# Altium footprint library Mounting_Wuerth.PcbLib: 191 footprints (part 1 of 12)
Each footprint in its own frame and in the unit in brackets; x right, y up, seen from the top. Pads: shape width x height; smd on the part's side, far side on the other; paste and mask are expansions set on the pad; w line width, h text height; cw(c..) or ccw(c..) is an arc to the next point about the centre after c.
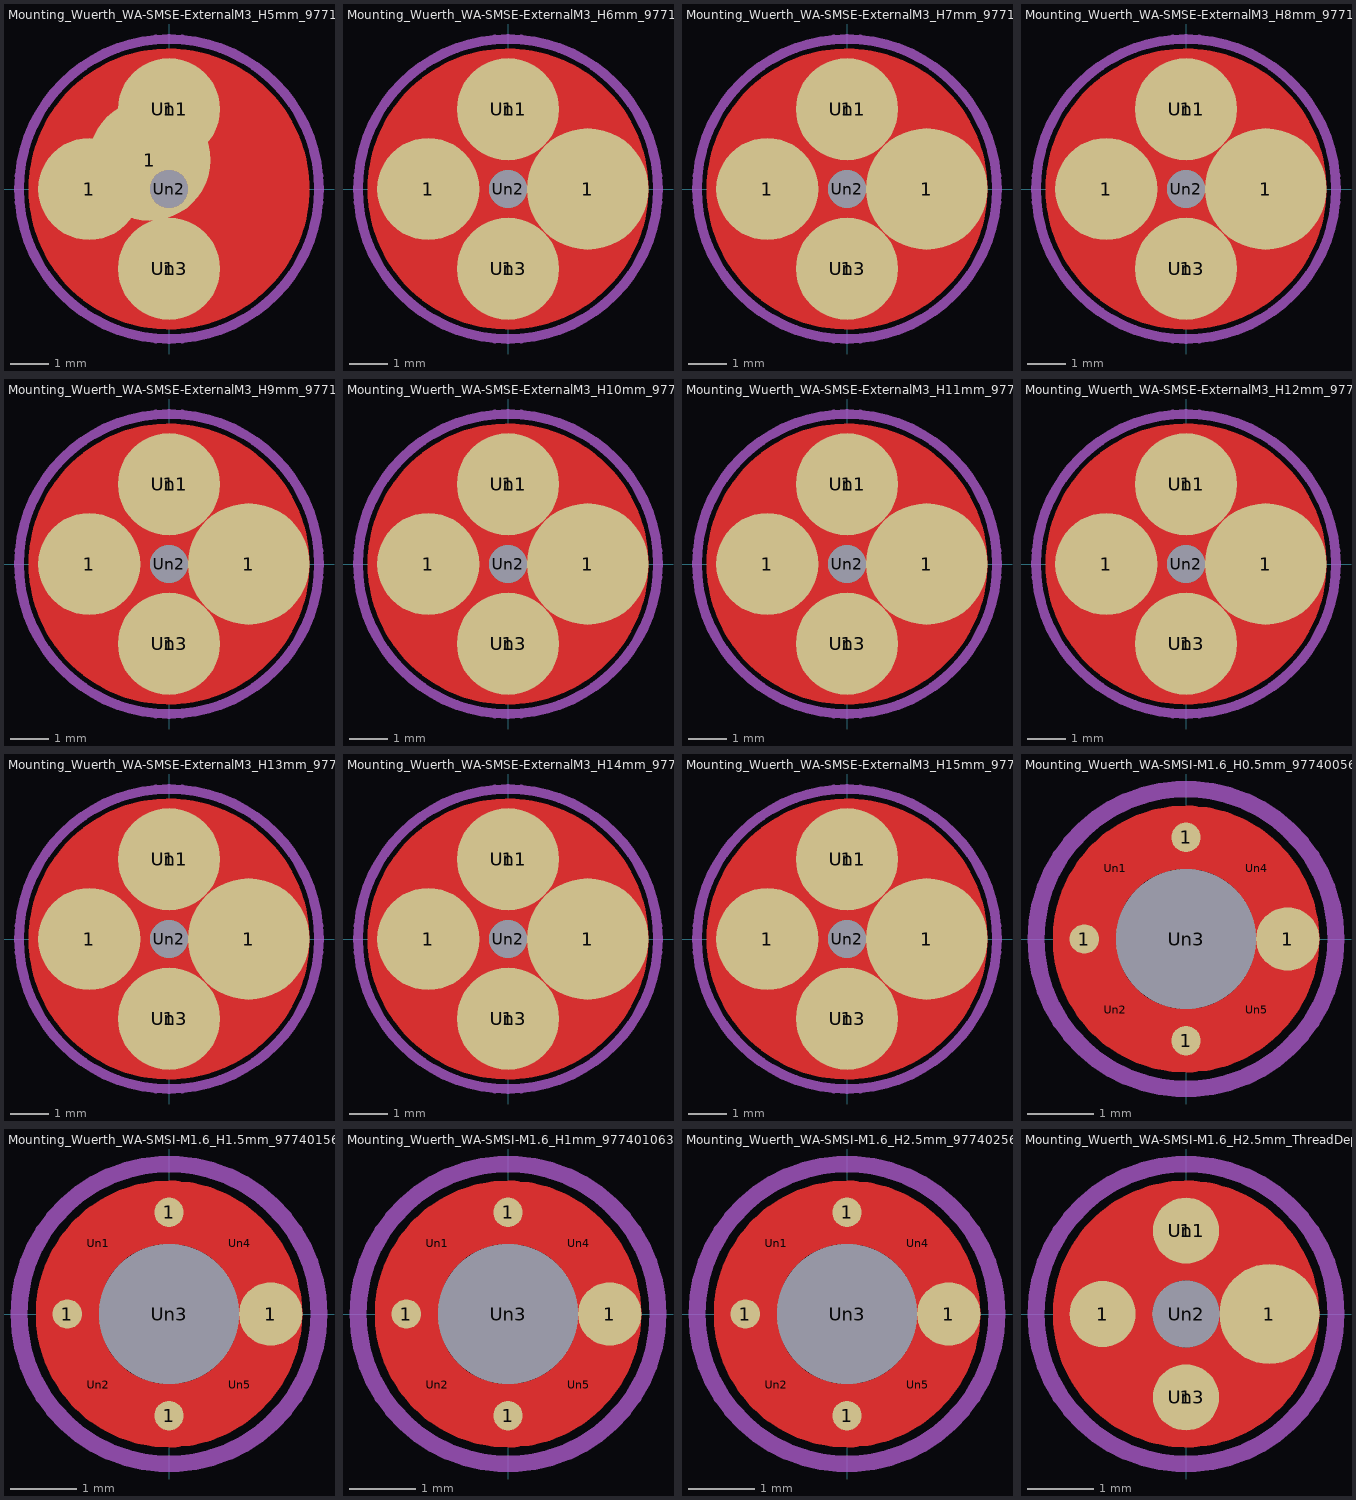
[diagram p0: the footprints below, top view; thin cyan lines are the x and y axes]

## Mounting_Wuerth_WA-SMSE-ExternalM3_H5mm_9771050360 [mm]
pads (7):
  round 2.692 smd: 1(-2.1,0) 1(0,-2.1) 1(0,2.1)
  round 3.2 smd: 1(-0.508,0.762)
  round 1.5 on Top Paste: Un1(0,2.1) Un3(0,-2.1)
  round 1 hole 1: Un2(0,0)
F.Cu:
  circle w3.2: c0,0 r2.1
F.Paste:
  lines w0.2: -3.5,0 -0.7,0 ; -3.443,0.63 -0.305,0.63 ; 0.305,-0.63 3.443,-0.63 ; 0.7,0 3.5,0
F.Mask:
  circle w3.2: c0,0 r2.1
Top Component Center:
  lines w0.127: -0.127,0 0.127,0 ; 0,-0.127 0,0.127
Top Assembly:
  circle w0.254: c0,0 r3
  text "'.Designator'" at -4.047,-0.84 h1
Top Courtyard:
  circle w0.254: c0,0 r3.95
Top Designator:
  text ".Designator" at -7.677,-0.508 h1.52
3D body "Mounting_Wuerth_WA-SMSE-ExternalM3_H5mm_9771050360.step": height 11, standoff -0.5, extent -3,-3 3,3

## Mounting_Wuerth_WA-SMSE-ExternalM3_H6mm_9771060360 [mm]
pads (7):
  round 2.692 smd: 1(-2.1,0) 1(0,-2.1) 1(0,2.1)
  round 3.2 smd: 1(2.1,0)
  round 1.5 on Top Paste: Un1(0,2.1) Un3(0,-2.1)
  round 1 hole 1: Un2(0,0)
F.Cu:
  circle w3.2: c0,0 r2.1
F.Paste:
  lines w0.2: -3.5,0 -0.7,0 ; -3.443,0.63 -0.305,0.63 ; 0.305,-0.63 3.443,-0.63 ; 0.7,0 3.5,0
F.Mask:
  circle w3.2: c0,0 r2.1
Top Assembly:
  circle w0.254: c0,0 r3
  text "'.Designator'" at -4.047,-0.84 h1
Top Courtyard:
  circle w0.254: c0,0 r3.95
Top Designator:
  text ".Designator" at -7.677,-0.508 h1.52
3D body "Mounting_Wuerth_WA-SMSE-ExternalM3_H6mm_9771060360.step": height 12, standoff -0.5, extent -3,-3 3,3

## Mounting_Wuerth_WA-SMSE-ExternalM3_H7mm_9771070360 [mm]
pads (7):
  round 2.692 smd: 1(-2.1,0) 1(0,-2.1) 1(0,2.1)
  round 3.2 smd: 1(2.1,0)
  round 1.5 on Top Paste: Un1(0,2.1) Un3(0,-2.1)
  round 1 hole 1: Un2(0,0)
F.Cu:
  circle w3.2: c0,0 r2.1
F.Paste:
  lines w0.2: -3.5,0 -0.7,0 ; -3.443,0.63 -0.305,0.63 ; 0.305,-0.63 3.443,-0.63 ; 0.7,0 3.5,0
F.Mask:
  circle w3.2: c0,0 r2.1
Top Assembly:
  circle w0.254: c0,0 r3
  text "'.Designator'" at -4.047,-0.84 h1
Top Courtyard:
  circle w0.254: c0,0 r3.95
Top Designator:
  text ".Designator" at -7.677,-0.508 h1.52
3D body "Mounting_Wuerth_WA-SMSE-ExternalM3_H7mm_9771070360.step": height 13, standoff -0.5, extent -3,-3 3,3

## Mounting_Wuerth_WA-SMSE-ExternalM3_H8mm_9771080360 [mm]
pads (7):
  round 2.692 smd: 1(-2.1,0) 1(0,-2.1) 1(0,2.1)
  round 3.2 smd: 1(2.1,0)
  round 1.5 on Top Paste: Un1(0,2.1) Un3(0,-2.1)
  round 1 hole 1: Un2(0,0)
F.Cu:
  circle w3.2: c0,0 r2.1
F.Paste:
  lines w0.2: -3.5,0 -0.7,0 ; -3.443,0.63 -0.305,0.63 ; 0.305,-0.63 3.443,-0.63 ; 0.7,0 3.5,0
F.Mask:
  circle w3.2: c0,0 r2.1
Top Assembly:
  circle w0.254: c0,0 r3
  text "'.Designator'" at -4.047,-0.84 h1
Top Courtyard:
  circle w0.254: c0,0 r3.95
Top Designator:
  text ".Designator" at -7.677,-0.508 h1.52
3D body "Mounting_Wuerth_WA-SMSE-ExternalM3_H8mm_9771080360.step": height 14, standoff -0.5, extent -3,-3 3,3

## Mounting_Wuerth_WA-SMSE-ExternalM3_H9mm_9771090360 [mm]
pads (7):
  round 2.692 smd: 1(-2.1,0) 1(0,-2.1) 1(0,2.1)
  round 3.2 smd: 1(2.1,0)
  round 1.5 on Top Paste: Un1(0,2.1) Un3(0,-2.1)
  round 1 hole 1: Un2(0,0)
F.Cu:
  circle w3.2: c0,0 r2.1
F.Paste:
  lines w0.2: -3.5,0 -0.7,0 ; -3.443,0.63 -0.305,0.63 ; 0.305,-0.63 3.443,-0.63 ; 0.7,0 3.5,0
F.Mask:
  circle w3.2: c0,0 r2.1
Top Assembly:
  circle w0.254: c0,0 r3
  text "'.Designator'" at -4.047,-0.84 h1
Top Courtyard:
  circle w0.254: c0,0 r3.95
Top Designator:
  text ".Designator" at -7.677,-0.508 h1.52
3D body "Mounting_Wuerth_WA-SMSE-ExternalM3_H9mm_9771090360.step": height 15, standoff -0.5, extent -3,-3 3,3

## Mounting_Wuerth_WA-SMSE-ExternalM3_H10mm_9771100360 [mm]
pads (7):
  round 2.692 smd: 1(-2.1,0) 1(0,-2.1) 1(0,2.1)
  round 3.2 smd: 1(2.1,0)
  round 1.5 on Top Paste: Un1(0,2.1) Un3(0,-2.1)
  round 1 hole 1: Un2(0,0)
F.Cu:
  circle w3.2: c0,0 r2.1
F.Paste:
  lines w0.2: -3.5,0 -0.7,0 ; -3.443,0.63 -0.305,0.63 ; 0.305,-0.63 3.443,-0.63 ; 0.7,0 3.5,0
F.Mask:
  circle w3.2: c0,0 r2.1
Top Assembly:
  circle w0.254: c0,0 r3
  text "'.Designator'" at -4.047,-0.84 h1
Top Courtyard:
  circle w0.254: c0,0 r3.95
Top Designator:
  text ".Designator" at -7.677,-0.508 h1.52
3D body "Mounting_Wuerth_WA-SMSE-ExternalM3_H10mm_9771100360.step": height 16, standoff -0.5, extent -3,-3 3,3

## Mounting_Wuerth_WA-SMSE-ExternalM3_H11mm_9771110360 [mm]
pads (7):
  round 2.692 smd: 1(-2.1,0) 1(0,-2.1) 1(0,2.1)
  round 3.2 smd: 1(2.1,0)
  round 1.5 on Top Paste: Un1(0,2.1) Un3(0,-2.1)
  round 1 hole 1: Un2(0,0)
F.Cu:
  circle w3.2: c0,0 r2.1
F.Paste:
  lines w0.2: -3.5,0 -0.7,0 ; -3.443,0.63 -0.305,0.63 ; 0.305,-0.63 3.443,-0.63 ; 0.7,0 3.5,0
F.Mask:
  circle w3.2: c0,0 r2.1
Top Assembly:
  circle w0.254: c0,0 r3
  text "'.Designator'" at -4.047,-0.84 h1
Top Courtyard:
  circle w0.254: c0,0 r3.95
Top Designator:
  text ".Designator" at -7.677,-0.508 h1.52
3D body "Mounting_Wuerth_WA-SMSE-ExternalM3_H11mm_9771110360.step": height 17, standoff -0.5, extent -3,-3 3,3

## Mounting_Wuerth_WA-SMSE-ExternalM3_H12mm_9771120360 [mm]
pads (7):
  round 2.692 smd: 1(-2.1,0) 1(0,-2.1) 1(0,2.1)
  round 3.2 smd: 1(2.1,0)
  round 1.5 on Top Paste: Un1(0,2.1) Un3(0,-2.1)
  round 1 hole 1: Un2(0,0)
F.Cu:
  circle w3.2: c0,0 r2.1
F.Paste:
  lines w0.2: -3.5,0 -0.7,0 ; -3.443,0.63 -0.305,0.63 ; 0.305,-0.63 3.443,-0.63 ; 0.7,0 3.5,0
F.Mask:
  circle w3.2: c0,0 r2.1
Top Assembly:
  circle w0.254: c0,0 r3
  text "'.Designator'" at -4.047,-0.84 h1
Top Courtyard:
  circle w0.254: c0,0 r3.95
Top Designator:
  text ".Designator" at -7.677,-0.508 h1.52
3D body "Mounting_Wuerth_WA-SMSE-ExternalM3_H12mm_9771120360.step": height 18, standoff -0.5, extent -3,-3 3,3

## Mounting_Wuerth_WA-SMSE-ExternalM3_H13mm_9771130360 [mm]
pads (7):
  round 2.692 smd: 1(-2.1,0) 1(0,-2.1) 1(0,2.1)
  round 3.2 smd: 1(2.1,0)
  round 1.5 on Top Paste: Un1(0,2.1) Un3(0,-2.1)
  round 1 hole 1: Un2(0,0)
F.Cu:
  circle w3.2: c0,0 r2.1
F.Paste:
  lines w0.2: -3.5,0 -0.7,0 ; -3.443,0.63 -0.305,0.63 ; 0.305,-0.63 3.443,-0.63 ; 0.7,0 3.5,0
F.Mask:
  circle w3.2: c0,0 r2.1
Top Assembly:
  circle w0.254: c0,0 r3
  text "'.Designator'" at -4.047,-0.84 h1
Top Courtyard:
  circle w0.254: c0,0 r3.95
Top Designator:
  text ".Designator" at -7.677,-0.508 h1.52
3D body "Mounting_Wuerth_WA-SMSE-ExternalM3_H13mm_9771130360.step": height 19, standoff -0.5, extent -3,-3 3,3

## Mounting_Wuerth_WA-SMSE-ExternalM3_H14mm_9771140360 [mm]
pads (7):
  round 2.692 smd: 1(-2.1,0) 1(0,-2.1) 1(0,2.1)
  round 3.2 smd: 1(2.1,0)
  round 1.5 on Top Paste: Un1(0,2.1) Un3(0,-2.1)
  round 1 hole 1: Un2(0,0)
F.Cu:
  circle w3.2: c0,0 r2.1
F.Paste:
  lines w0.2: -3.5,0 -0.7,0 ; -3.443,0.63 -0.305,0.63 ; 0.305,-0.63 3.443,-0.63 ; 0.7,0 3.5,0
F.Mask:
  circle w3.2: c0,0 r2.1
Top Assembly:
  circle w0.254: c0,0 r3
  text "'.Designator'" at -4.047,-0.84 h1
Top Courtyard:
  circle w0.254: c0,0 r3.95
Top Designator:
  text ".Designator" at -7.677,-0.508 h1.52
3D body "Mounting_Wuerth_WA-SMSE-ExternalM3_H14mm_9771140360.step": height 20, standoff -0.5, extent -3,-3 3,3

## Mounting_Wuerth_WA-SMSE-ExternalM3_H15mm_9771150360 [mm]
pads (7):
  round 2.692 smd: 1(-2.1,0) 1(0,-2.1) 1(0,2.1)
  round 3.2 smd: 1(2.1,0)
  round 1.5 on Top Paste: Un1(0,2.1) Un3(0,-2.1)
  round 1 hole 1: Un2(0,0)
F.Cu:
  circle w3.2: c0,0 r2.1
F.Paste:
  lines w0.2: -3.5,0 -0.7,0 ; -3.443,0.63 -0.305,0.63 ; 0.305,-0.63 3.443,-0.63 ; 0.7,0 3.5,0
F.Mask:
  circle w3.2: c0,0 r2.1
Top Assembly:
  circle w0.254: c0,0 r3
  text "'.Designator'" at -4.047,-0.84 h1
Top Courtyard:
  circle w0.254: c0,0 r3.95
Top Designator:
  text ".Designator" at -7.677,-0.508 h1.52
3D body "Mounting_Wuerth_WA-SMSE-ExternalM3_H15mm_9771150360.step": height 21, standoff -0.5, extent -3,-3 3,3

## Mounting_Wuerth_WA-SMSI-M1.6_H0.5mm_9774005633 [mm]
pads (9):
  round 0.442 smd: 1(-1.525,0) 1(0,-1.525) 1(0,1.525)
  round 0.95 smd: 1(1.525,0)
  round 0.4 on Top Paste: Un1(-1.061,1.061) Un2(-1.061,-1.061) Un4(1.061,1.061) Un5(1.061,-1.061)
  round 2.1 hole 2.1: Un3(0,0)
F.Cu:
  circle w0.95: c0,0 r1.525
F.Paste:
  lines w0.2: -1.775,-0.3 -1.162,-0.3 ; -1.775,0.3 -1.162,0.3 ; -0.3,-1.775 -0.3,-1.162 ; -0.3,1.162 -0.3,1.775 ; 0.3,-1.775 0.3,-1.162 ; 0.3,1.162 0.3,1.775 ; 1.162,-0.3 1.775,-0.3 ; 1.162,0.3 1.775,0.3
F.Mask:
  circle w0.95: c0,0 r1.525
Top Assembly:
  circle w0.254: c0,0 r1.65
  text "'.Designator'" at -3.315,-0.686 h0.82
Top Courtyard:
  circle w0.254: c0,0 r2.25
Top Designator:
  text ".Designator" at -7.738,-0.508 h1.52

## Mounting_Wuerth_WA-SMSI-M1.6_H1.5mm_9774015633 [mm]
pads (9):
  round 0.442 smd: 1(-1.525,0) 1(0,-1.525) 1(0,1.525)
  round 0.95 smd: 1(1.525,0)
  round 0.4 on Top Paste: Un1(-1.061,1.061) Un2(-1.061,-1.061) Un4(1.061,1.061) Un5(1.061,-1.061)
  round 2.1 hole 2.1: Un3(0,0)
F.Cu:
  circle w0.95: c0,0 r1.525
F.Paste:
  lines w0.2: -1.775,-0.3 -1.162,-0.3 ; -1.775,0.3 -1.162,0.3 ; -0.3,-1.775 -0.3,-1.162 ; -0.3,1.162 -0.3,1.775 ; 0.3,-1.775 0.3,-1.162 ; 0.3,1.162 0.3,1.775 ; 1.162,-0.3 1.775,-0.3 ; 1.162,0.3 1.775,0.3
F.Mask:
  circle w0.95: c0,0 r1.525
Top Assembly:
  circle w0.254: c0,0 r1.65
  text "'.Designator'" at -3.315,-0.686 h0.82
Top Courtyard:
  circle w0.254: c0,0 r2.25
Top Designator:
  text ".Designator" at -7.738,-0.508 h1.52
3D body "Mounting_Wuerth_WA-SMSI-M1.6_H1.5mm_9774015633.step": height 1.5, standoff -0.7, extent -1.65,-1.647 1.65,1.647

## Mounting_Wuerth_WA-SMSI-M1.6_H1mm_9774010633 [mm]
pads (9):
  round 0.442 smd: 1(-1.525,0) 1(0,-1.525) 1(0,1.525)
  round 0.95 smd: 1(1.525,0)
  round 0.4 on Top Paste: Un1(-1.061,1.061) Un2(-1.061,-1.061) Un4(1.061,1.061) Un5(1.061,-1.061)
  round 2.1 hole 2.1: Un3(0,0)
F.Cu:
  circle w0.95: c0,0 r1.525
F.Paste:
  lines w0.2: -1.775,-0.3 -1.162,-0.3 ; -1.775,0.3 -1.162,0.3 ; -0.3,-1.775 -0.3,-1.162 ; -0.3,1.162 -0.3,1.775 ; 0.3,-1.775 0.3,-1.162 ; 0.3,1.162 0.3,1.775 ; 1.162,-0.3 1.775,-0.3 ; 1.162,0.3 1.775,0.3
F.Mask:
  circle w0.95: c0,0 r1.525
Top Assembly:
  circle w0.254: c0,0 r1.65
  text "'.Designator'" at -3.315,-0.686 h0.82
Top Courtyard:
  circle w0.254: c0,0 r2.25
Top Designator:
  text ".Designator" at -7.738,-0.508 h1.52
3D body "Mounting_Wuerth_WA-SMSI-M1.6_H1mm_9774010633.step": height 1, standoff -0.7, extent -1.65,-1.647 1.65,1.647

## Mounting_Wuerth_WA-SMSI-M1.6_H2.5mm_9774025633 [mm]
pads (9):
  round 0.442 smd: 1(-1.525,0) 1(0,-1.525) 1(0,1.525)
  round 0.95 smd: 1(1.525,0)
  round 0.4 on Top Paste: Un1(-1.061,1.061) Un2(-1.061,-1.061) Un4(1.061,1.061) Un5(1.061,-1.061)
  round 2.1 hole 2.1: Un3(0,0)
F.Cu:
  circle w0.95: c0,0 r1.525
F.Paste:
  lines w0.2: -1.775,-0.3 -1.162,-0.3 ; -1.775,0.3 -1.162,0.3 ; -0.3,-1.775 -0.3,-1.162 ; -0.3,1.162 -0.3,1.775 ; 0.3,-1.775 0.3,-1.162 ; 0.3,1.162 0.3,1.775 ; 1.162,-0.3 1.775,-0.3 ; 1.162,0.3 1.775,0.3
F.Mask:
  circle w0.95: c0,0 r1.525
Top Assembly:
  circle w0.254: c0,0 r1.65
  text "'.Designator'" at -3.315,-0.686 h0.82
Top Courtyard:
  circle w0.254: c0,0 r2.25
Top Designator:
  text ".Designator" at -7.738,-0.508 h1.52
3D body "Mounting_Wuerth_WA-SMSI-M1.6_H2.5mm_9774025633.step": height 2.5, standoff -0.7, extent -1.65,-1.647 1.65,1.647

## Mounting_Wuerth_WA-SMSI-M1.6_H2.5mm_ThreadDepth1.5mm_97730256332 [mm]
pads (7):
  round 0.992 smd: 1(-1.25,0) 1(0,-1.25) 1(0,1.25)
  round 1.5 smd: 1(1.25,0)
  round 0.65 on Top Paste: Un1(0,1.25) Un3(0,-1.25)
  round 1 hole 1: Un2(0,0)
F.Cu:
  circle w1.5: c0,0 r1.25
F.Paste:
  lines w0.2: -1.8,0 -0.7,0 ; -1.679,0.65 -0.26,0.65 ; 0.26,-0.65 1.679,-0.65 ; 0.7,0 1.8,0
F.Mask:
  circle w1.5: c0,0 r1.25
Top Assembly:
  circle w0.254: c0,0 r1.65
  text "'.Designator'" at -3.315,-0.686 h0.82
Top Courtyard:
  circle w0.254: c0,0 r2.25
Top Designator:
  text ".Designator" at -7.738,-0.508 h1.52
3D body "Mounting_Wuerth_WA-SMSI-M1.6_H2.5mm_ThreadDepth1.5mm_97730256332.step": height 2.5, standoff -0.5, extent -1.65,-1.647 1.65,1.647